# Altium schematic symbol library IBOARD_Male.SchLib: 1 symbol
Pins are listed as number, name and electrical type; pins without a type are passive.

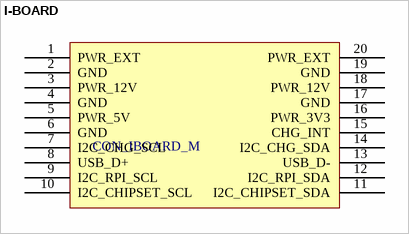
[diagram p0: symbol I-BOARD]

## I-BOARD
designator CON_IBOARD_M  (value not drawn)
footprint IPCP254M20PB28S
pins: 1 PWR_EXT, 2 GND, 3 PWR_12V, 4 GND, 5 PWR_5V, 6 GND, 7 I2C_CHG_SCL, 8 USB_D+, 9 I2C_RPI_SCL, 10 I2C_CHIPSET_SCL, 11 I2C_CHIPSET_SDA, 12 I2C_RPI_SDA, 13 USB_D-, 14 I2C_CHG_SDA, 15 CHG_INT, 16 PWR_3V3, 17 GND, 18 PWR_12V, 19 GND, 20 PWR_EXT